# EAGLE library part DEVLAB-MIKROBUS_10P (library UNIT_Biblioteca_Modulos)
Plantilla de formato MikroBUS a castellated de 10 pines :) Propietario: UNIT Electronics Desarrollador: Gerardo Ruvalcaba
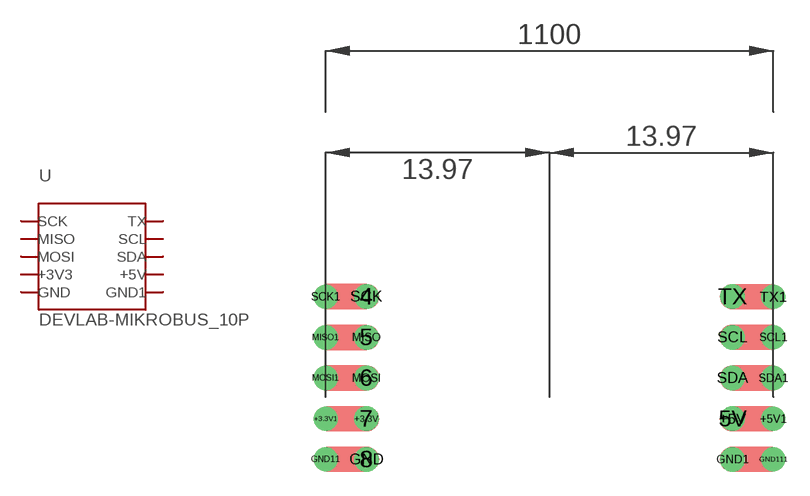
[diagram p37: symbol with the pads of MIKRO_CASTELLATED_10P; footprint MIKRO_CASTELLATED_10P]

Designator prefix -

## DEVLAB-MIKROBUS_10P  [MIKRO_CASTELLATED_10P]
+3.3V  +3V3
+3.3V1  +3V3
+5V  +5V
+5V1  +5V
GND  GND
GND1  GND1
GND11  GND
GND111  GND1
MISO  MISO
MISO1  MISO
MOSI  MOSI
MOSI1  MOSI
SCK  SCK
SCK1  SCK
SCL  SCL
SCL1  SCL
SDA  SDA
SDA1  SDA
TX  TX
TX1  TX

## Footprint MIKRO_CASTELLATED_10P (pad centres in mm)
drill 1 pad 0.254: 4 -11.425,6.258; 5 -11.425,3.717; 6 -11.425,1.177; 7 -11.425,-1.363; 8 -11.425,-3.902; +3.3V1 -13.97,-1.373; +5V 11.43,-1.365; +5V1 13.97,-1.377; GND11 -13.97,-3.897; GND111 13.97,-3.902; MISO1 -13.97,3.703; MOSI1 -13.97,1.177; SCK1 -13.97,6.253; SCL1 13.97,3.723; SDA1 13.97,1.173; TX1 13.97,6.247
drill 1.02: 5V 11.43,-1.365; +3.3V -11.43,-1.365; GND -11.43,-3.905; GND1 11.43,-3.905; MISO -11.43,3.715; MOSI -11.43,1.175; SCK -11.43,6.255; SCL 11.43,3.715; SDA 11.43,1.175; TX 11.43,6.255